# Altium schematic symbol library kmilo17pet-NSC_VoltageRef.SchLib: 796 symbols (part 11 of 20)
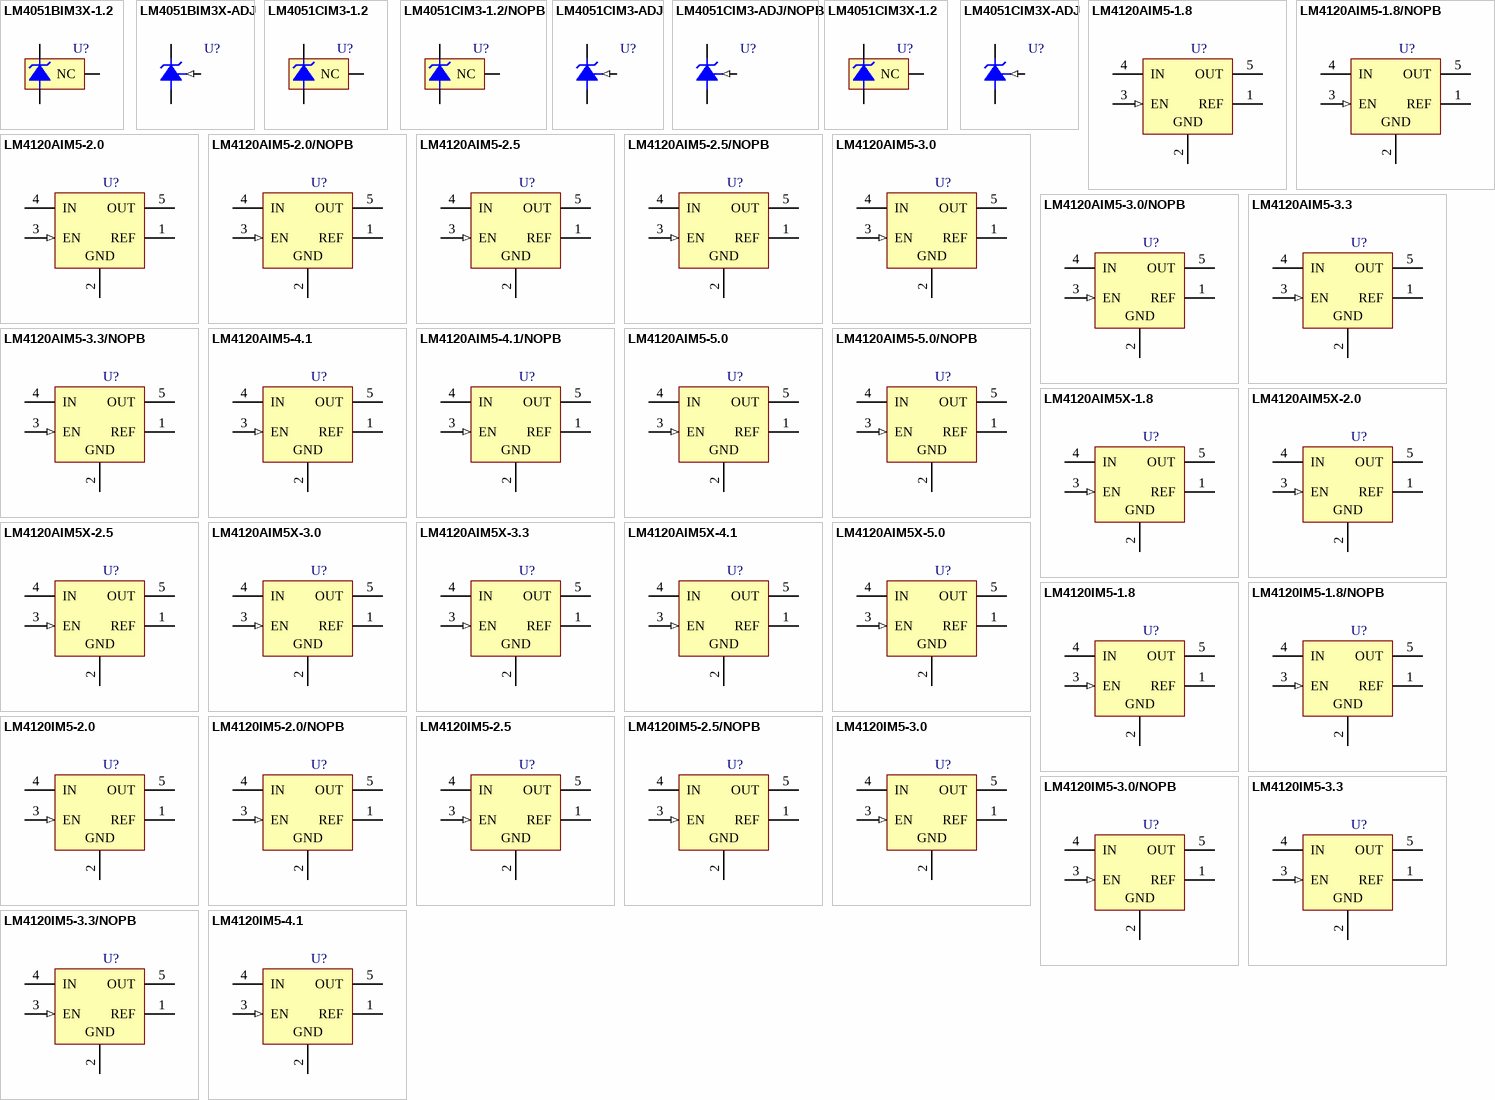
[diagram p30: symbols LM4051BIM3X-1.2 to LM4120IM5-4.1]

## LM4120AIM5-3.0/NOPB
designator U?
Precision Micropower Low Dropout Voltage Reference, 5-pin SOT-23, Pb-Free; PartNumber: LM4120AIM5-3.0/NOPB; Manufacturer: National Semiconductor; PackageTopMarking: R15A*XTT; PowerWise: Y; CompType: Voltage Reference IC; DatasheetVersion: Mar-2005; PackageVersion: revD, Aug-2008; PackageReference: MF05A; PackageDescription: Molded SOT-23, .115 x .063 x .040 in Body, 5 Lead, .0375 in Pitch; RoHS: Y; PinCount: 5; ComponentLink1Description: Manufacturer URL; ComponentLink1URL: http://www.national.com/; ComponentLink2Description: LM4120 Datasheet; ComponentLink2URL: http://www.national.com/ds/LM/LM4120.pdf; ComponentLink3Description: LM4120 Web Page; ComponentLink3URL: http://www.national.com/pf/LM/LM4120.html; ComponentLink4Description: MF05A Package Page; ComponentLink4URL: http://www.national.com/packaging/folders/mf05a.html
footprint MF05A_N (SOT23, 5-Leads, Body 2.9x1.6mm, Pitch 0.95mm, Lead Span 2.8mm, IPC Medium Density)
footprint MF05A_L (SOT23, 5-Leads, Body 2.9x1.6mm, Pitch 0.95mm, Lead Span 2.8mm, IPC High Density)
footprint MF05A_M (SOT23, 5-Leads, Body 2.9x1.6mm, Pitch 0.95mm, Lead Span 2.8mm, IPC Low Density)
pins: 1 REF, 2 GND (power), 3 EN (in), 4 IN (power), 5 OUT (power)

## LM4120AIM5-3.3
designator U?
Precision Micropower Low Dropout Voltage Reference, 5-pin SOT-23; PartNumber: LM4120AIM5-3.3; Manufacturer: National Semiconductor; PackageTopMarking: R16A*XTT; PowerWise: Y; CompType: Voltage Reference IC; DatasheetVersion: Mar-2005; PackageVersion: revD, Aug-2008; PackageReference: MF05A; PackageDescription: Molded SOT-23, .115 x .063 x .040 in Body, 5 Lead, .0375 in Pitch; RoHS: N; PinCount: 5; ComponentLink1Description: Manufacturer URL; ComponentLink1URL: http://www.national.com/; ComponentLink2Description: LM4120 Datasheet; ComponentLink2URL: http://www.national.com/ds/LM/LM4120.pdf; ComponentLink3Description: LM4120 Web Page; ComponentLink3URL: http://www.national.com/pf/LM/LM4120.html; ComponentLink4Description: MF05A Package Page; ComponentLink4URL: http://www.national.com/packaging/folders/mf05a.html
footprint MF05A_N (SOT23, 5-Leads, Body 2.9x1.6mm, Pitch 0.95mm, Lead Span 2.8mm, IPC Medium Density)
footprint MF05A_L (SOT23, 5-Leads, Body 2.9x1.6mm, Pitch 0.95mm, Lead Span 2.8mm, IPC High Density)
footprint MF05A_M (SOT23, 5-Leads, Body 2.9x1.6mm, Pitch 0.95mm, Lead Span 2.8mm, IPC Low Density)
pins: 1 REF, 2 GND (power), 3 EN (in), 4 IN (power), 5 OUT (power)

## LM4120AIM5-3.3/NOPB
designator U?
Precision Micropower Low Dropout Voltage Reference, 5-pin SOT-23, Pb-Free; PartNumber: LM4120AIM5-3.3/NOPB; Manufacturer: National Semiconductor; PackageTopMarking: R16A*XTT; PowerWise: Y; CompType: Voltage Reference IC; DatasheetVersion: Mar-2005; PackageVersion: revD, Aug-2008; PackageReference: MF05A; PackageDescription: Molded SOT-23, .115 x .063 x .040 in Body, 5 Lead, .0375 in Pitch; RoHS: Y; PinCount: 5; ComponentLink1Description: Manufacturer URL; ComponentLink1URL: http://www.national.com/; ComponentLink2Description: LM4120 Datasheet; ComponentLink2URL: http://www.national.com/ds/LM/LM4120.pdf; ComponentLink3Description: LM4120 Web Page; ComponentLink3URL: http://www.national.com/pf/LM/LM4120.html; ComponentLink4Description: MF05A Package Page; ComponentLink4URL: http://www.national.com/packaging/folders/mf05a.html
footprint MF05A_N (SOT23, 5-Leads, Body 2.9x1.6mm, Pitch 0.95mm, Lead Span 2.8mm, IPC Medium Density)
footprint MF05A_L (SOT23, 5-Leads, Body 2.9x1.6mm, Pitch 0.95mm, Lead Span 2.8mm, IPC High Density)
footprint MF05A_M (SOT23, 5-Leads, Body 2.9x1.6mm, Pitch 0.95mm, Lead Span 2.8mm, IPC Low Density)
pins: 1 REF, 2 GND (power), 3 EN (in), 4 IN (power), 5 OUT (power)

## LM4120AIM5-4.1
designator U?
Precision Micropower Low Dropout Voltage Reference, 5-pin SOT-23; PartNumber: LM4120AIM5-4.1; Manufacturer: National Semiconductor; PackageTopMarking: R17A*XTT; PowerWise: Y; CompType: Voltage Reference IC; DatasheetVersion: Mar-2005; PackageVersion: revD, Aug-2008; PackageReference: MF05A; PackageDescription: Molded SOT-23, .115 x .063 x .040 in Body, 5 Lead, .0375 in Pitch; RoHS: N; PinCount: 5; ComponentLink1Description: Manufacturer URL; ComponentLink1URL: http://www.national.com/; ComponentLink2Description: LM4120 Datasheet; ComponentLink2URL: http://www.national.com/ds/LM/LM4120.pdf; ComponentLink3Description: LM4120 Web Page; ComponentLink3URL: http://www.national.com/pf/LM/LM4120.html; ComponentLink4Description: MF05A Package Page; ComponentLink4URL: http://www.national.com/packaging/folders/mf05a.html
footprint MF05A_N (SOT23, 5-Leads, Body 2.9x1.6mm, Pitch 0.95mm, Lead Span 2.8mm, IPC Medium Density)
footprint MF05A_L (SOT23, 5-Leads, Body 2.9x1.6mm, Pitch 0.95mm, Lead Span 2.8mm, IPC High Density)
footprint MF05A_M (SOT23, 5-Leads, Body 2.9x1.6mm, Pitch 0.95mm, Lead Span 2.8mm, IPC Low Density)
pins: 1 REF, 2 GND (power), 3 EN (in), 4 IN (power), 5 OUT (power)

## LM4120AIM5-4.1/NOPB
designator U?
Precision Micropower Low Dropout Voltage Reference, 5-pin SOT-23, Pb-Free; PartNumber: LM4120AIM5-4.1/NOPB; Manufacturer: National Semiconductor; PackageTopMarking: R17A*XTT; PowerWise: Y; CompType: Voltage Reference IC; DatasheetVersion: Mar-2005; PackageVersion: revD, Aug-2008; PackageReference: MF05A; PackageDescription: Molded SOT-23, .115 x .063 x .040 in Body, 5 Lead, .0375 in Pitch; RoHS: Y; PinCount: 5; ComponentLink1Description: Manufacturer URL; ComponentLink1URL: http://www.national.com/; ComponentLink2Description: LM4120 Datasheet; ComponentLink2URL: http://www.national.com/ds/LM/LM4120.pdf; ComponentLink3Description: LM4120 Web Page; ComponentLink3URL: http://www.national.com/pf/LM/LM4120.html; ComponentLink4Description: MF05A Package Page; ComponentLink4URL: http://www.national.com/packaging/folders/mf05a.html
footprint MF05A_N (SOT23, 5-Leads, Body 2.9x1.6mm, Pitch 0.95mm, Lead Span 2.8mm, IPC Medium Density)
footprint MF05A_L (SOT23, 5-Leads, Body 2.9x1.6mm, Pitch 0.95mm, Lead Span 2.8mm, IPC High Density)
footprint MF05A_M (SOT23, 5-Leads, Body 2.9x1.6mm, Pitch 0.95mm, Lead Span 2.8mm, IPC Low Density)
pins: 1 REF, 2 GND (power), 3 EN (in), 4 IN (power), 5 OUT (power)

## LM4120AIM5-5.0
designator U?
Precision Micropower Low Dropout Voltage Reference, 5-pin SOT-23; PartNumber: LM4120AIM5-5.0; Manufacturer: National Semiconductor; PackageTopMarking: R18A*XTT; PowerWise: Y; CompType: Voltage Reference IC; DatasheetVersion: Mar-2005; PackageVersion: revD, Aug-2008; PackageReference: MF05A; PackageDescription: Molded SOT-23, .115 x .063 x .040 in Body, 5 Lead, .0375 in Pitch; RoHS: N; PinCount: 5; ComponentLink1Description: Manufacturer URL; ComponentLink1URL: http://www.national.com/; ComponentLink2Description: LM4120 Datasheet; ComponentLink2URL: http://www.national.com/ds/LM/LM4120.pdf; ComponentLink3Description: LM4120 Web Page; ComponentLink3URL: http://www.national.com/pf/LM/LM4120.html; ComponentLink4Description: MF05A Package Page; ComponentLink4URL: http://www.national.com/packaging/folders/mf05a.html
footprint MF05A_N (SOT23, 5-Leads, Body 2.9x1.6mm, Pitch 0.95mm, Lead Span 2.8mm, IPC Medium Density)
footprint MF05A_L (SOT23, 5-Leads, Body 2.9x1.6mm, Pitch 0.95mm, Lead Span 2.8mm, IPC High Density)
footprint MF05A_M (SOT23, 5-Leads, Body 2.9x1.6mm, Pitch 0.95mm, Lead Span 2.8mm, IPC Low Density)
pins: 1 REF, 2 GND (power), 3 EN (in), 4 IN (power), 5 OUT (power)

## LM4120AIM5-5.0/NOPB
designator U?
Precision Micropower Low Dropout Voltage Reference, 5-pin SOT-23, Pb-Free; PartNumber: LM4120AIM5-5.0/NOPB; Manufacturer: National Semiconductor; PackageTopMarking: R18A*XTT; PowerWise: Y; CompType: Voltage Reference IC; DatasheetVersion: Mar-2005; PackageVersion: revD, Aug-2008; PackageReference: MF05A; PackageDescription: Molded SOT-23, .115 x .063 x .040 in Body, 5 Lead, .0375 in Pitch; RoHS: Y; PinCount: 5; ComponentLink1Description: Manufacturer URL; ComponentLink1URL: http://www.national.com/; ComponentLink2Description: LM4120 Datasheet; ComponentLink2URL: http://www.national.com/ds/LM/LM4120.pdf; ComponentLink3Description: LM4120 Web Page; ComponentLink3URL: http://www.national.com/pf/LM/LM4120.html; ComponentLink4Description: MF05A Package Page; ComponentLink4URL: http://www.national.com/packaging/folders/mf05a.html
footprint MF05A_N (SOT23, 5-Leads, Body 2.9x1.6mm, Pitch 0.95mm, Lead Span 2.8mm, IPC Medium Density)
footprint MF05A_L (SOT23, 5-Leads, Body 2.9x1.6mm, Pitch 0.95mm, Lead Span 2.8mm, IPC High Density)
footprint MF05A_M (SOT23, 5-Leads, Body 2.9x1.6mm, Pitch 0.95mm, Lead Span 2.8mm, IPC Low Density)
pins: 1 REF, 2 GND (power), 3 EN (in), 4 IN (power), 5 OUT (power)

## LM4120AIM5X-1.8
designator U?
Precision Micropower Low Dropout Voltage Reference, 5-pin SOT-23; PartNumber: LM4120AIM5X-1.8; Manufacturer: National Semiconductor; PackageTopMarking: R21A*XTT; PowerWise: Y; CompType: Voltage Reference IC; DatasheetVersion: Mar-2005; PackageVersion: revD, Aug-2008; PackageReference: MF05A; PackageDescription: Molded SOT-23, .115 x .063 x .040 in Body, 5 Lead, .0375 in Pitch; RoHS: N; PinCount: 5; ComponentLink1Description: Manufacturer URL; ComponentLink1URL: http://www.national.com/; ComponentLink2Description: LM4120 Datasheet; ComponentLink2URL: http://www.national.com/ds/LM/LM4120.pdf; ComponentLink3Description: LM4120 Web Page; ComponentLink3URL: http://www.national.com/pf/LM/LM4120.html; ComponentLink4Description: MF05A Package Page; ComponentLink4URL: http://www.national.com/packaging/folders/mf05a.html
footprint MF05A_N (SOT23, 5-Leads, Body 2.9x1.6mm, Pitch 0.95mm, Lead Span 2.8mm, IPC Medium Density)
footprint MF05A_L (SOT23, 5-Leads, Body 2.9x1.6mm, Pitch 0.95mm, Lead Span 2.8mm, IPC High Density)
footprint MF05A_M (SOT23, 5-Leads, Body 2.9x1.6mm, Pitch 0.95mm, Lead Span 2.8mm, IPC Low Density)
pins: 1 REF, 2 GND (power), 3 EN (in), 4 IN (power), 5 OUT (power)

## LM4120AIM5X-2.0
designator U?
Precision Micropower Low Dropout Voltage Reference, 5-pin SOT-23; PartNumber: LM4120AIM5X-2.0; Manufacturer: National Semiconductor; PackageTopMarking: R14A*XTT; PowerWise: Y; CompType: Voltage Reference IC; DatasheetVersion: Mar-2005; PackageVersion: revD, Aug-2008; PackageReference: MF05A; PackageDescription: Molded SOT-23, .115 x .063 x .040 in Body, 5 Lead, .0375 in Pitch; RoHS: N; PinCount: 5; ComponentLink1Description: Manufacturer URL; ComponentLink1URL: http://www.national.com/; ComponentLink2Description: LM4120 Datasheet; ComponentLink2URL: http://www.national.com/ds/LM/LM4120.pdf; ComponentLink3Description: LM4120 Web Page; ComponentLink3URL: http://www.national.com/pf/LM/LM4120.html; ComponentLink4Description: MF05A Package Page; ComponentLink4URL: http://www.national.com/packaging/folders/mf05a.html
footprint MF05A_N (SOT23, 5-Leads, Body 2.9x1.6mm, Pitch 0.95mm, Lead Span 2.8mm, IPC Medium Density)
footprint MF05A_L (SOT23, 5-Leads, Body 2.9x1.6mm, Pitch 0.95mm, Lead Span 2.8mm, IPC High Density)
footprint MF05A_M (SOT23, 5-Leads, Body 2.9x1.6mm, Pitch 0.95mm, Lead Span 2.8mm, IPC Low Density)
pins: 1 REF, 2 GND (power), 3 EN (in), 4 IN (power), 5 OUT (power)

## LM4120AIM5X-2.5
designator U?
Precision Micropower Low Dropout Voltage Reference, 5-pin SOT-23; PartNumber: LM4120AIM5X-2.5; Manufacturer: National Semiconductor; PackageTopMarking: R08A*XTT; PowerWise: Y; CompType: Voltage Reference IC; DatasheetVersion: Mar-2005; PackageVersion: revD, Aug-2008; PackageReference: MF05A; PackageDescription: Molded SOT-23, .115 x .063 x .040 in Body, 5 Lead, .0375 in Pitch; RoHS: N; PinCount: 5; ComponentLink1Description: Manufacturer URL; ComponentLink1URL: http://www.national.com/; ComponentLink2Description: LM4120 Datasheet; ComponentLink2URL: http://www.national.com/ds/LM/LM4120.pdf; ComponentLink3Description: LM4120 Web Page; ComponentLink3URL: http://www.national.com/pf/LM/LM4120.html; ComponentLink4Description: MF05A Package Page; ComponentLink4URL: http://www.national.com/packaging/folders/mf05a.html
footprint MF05A_N (SOT23, 5-Leads, Body 2.9x1.6mm, Pitch 0.95mm, Lead Span 2.8mm, IPC Medium Density)
footprint MF05A_L (SOT23, 5-Leads, Body 2.9x1.6mm, Pitch 0.95mm, Lead Span 2.8mm, IPC High Density)
footprint MF05A_M (SOT23, 5-Leads, Body 2.9x1.6mm, Pitch 0.95mm, Lead Span 2.8mm, IPC Low Density)
pins: 1 REF, 2 GND (power), 3 EN (in), 4 IN (power), 5 OUT (power)

## LM4120AIM5X-3.0
designator U?
Precision Micropower Low Dropout Voltage Reference, 5-pin SOT-23; PartNumber: LM4120AIM5X-3.0; Manufacturer: National Semiconductor; PackageTopMarking: R15A*XTT; PowerWise: Y; CompType: Voltage Reference IC; DatasheetVersion: Mar-2005; PackageVersion: revD, Aug-2008; PackageReference: MF05A; PackageDescription: Molded SOT-23, .115 x .063 x .040 in Body, 5 Lead, .0375 in Pitch; RoHS: N; PinCount: 5; ComponentLink1Description: Manufacturer URL; ComponentLink1URL: http://www.national.com/; ComponentLink2Description: LM4120 Datasheet; ComponentLink2URL: http://www.national.com/ds/LM/LM4120.pdf; ComponentLink3Description: LM4120 Web Page; ComponentLink3URL: http://www.national.com/pf/LM/LM4120.html; ComponentLink4Description: MF05A Package Page; ComponentLink4URL: http://www.national.com/packaging/folders/mf05a.html
footprint MF05A_N (SOT23, 5-Leads, Body 2.9x1.6mm, Pitch 0.95mm, Lead Span 2.8mm, IPC Medium Density)
footprint MF05A_L (SOT23, 5-Leads, Body 2.9x1.6mm, Pitch 0.95mm, Lead Span 2.8mm, IPC High Density)
footprint MF05A_M (SOT23, 5-Leads, Body 2.9x1.6mm, Pitch 0.95mm, Lead Span 2.8mm, IPC Low Density)
pins: 1 REF, 2 GND (power), 3 EN (in), 4 IN (power), 5 OUT (power)

## LM4120AIM5X-3.3
designator U?
Precision Micropower Low Dropout Voltage Reference, 5-pin SOT-23; PartNumber: LM4120AIM5X-3.3; Manufacturer: National Semiconductor; PackageTopMarking: R16A*XTT; PowerWise: Y; CompType: Voltage Reference IC; DatasheetVersion: Mar-2005; PackageVersion: revD, Aug-2008; PackageReference: MF05A; PackageDescription: Molded SOT-23, .115 x .063 x .040 in Body, 5 Lead, .0375 in Pitch; RoHS: N; PinCount: 5; ComponentLink1Description: Manufacturer URL; ComponentLink1URL: http://www.national.com/; ComponentLink2Description: LM4120 Datasheet; ComponentLink2URL: http://www.national.com/ds/LM/LM4120.pdf; ComponentLink3Description: LM4120 Web Page; ComponentLink3URL: http://www.national.com/pf/LM/LM4120.html; ComponentLink4Description: MF05A Package Page; ComponentLink4URL: http://www.national.com/packaging/folders/mf05a.html
footprint MF05A_N (SOT23, 5-Leads, Body 2.9x1.6mm, Pitch 0.95mm, Lead Span 2.8mm, IPC Medium Density)
footprint MF05A_L (SOT23, 5-Leads, Body 2.9x1.6mm, Pitch 0.95mm, Lead Span 2.8mm, IPC High Density)
footprint MF05A_M (SOT23, 5-Leads, Body 2.9x1.6mm, Pitch 0.95mm, Lead Span 2.8mm, IPC Low Density)
pins: 1 REF, 2 GND (power), 3 EN (in), 4 IN (power), 5 OUT (power)

## LM4120AIM5X-4.1
designator U?
Precision Micropower Low Dropout Voltage Reference, 5-pin SOT-23; PartNumber: LM4120AIM5X-4.1; Manufacturer: National Semiconductor; PackageTopMarking: R17A*XTT; PowerWise: Y; CompType: Voltage Reference IC; DatasheetVersion: Mar-2005; PackageVersion: revD, Aug-2008; PackageReference: MF05A; PackageDescription: Molded SOT-23, .115 x .063 x .040 in Body, 5 Lead, .0375 in Pitch; RoHS: N; PinCount: 5; ComponentLink1Description: Manufacturer URL; ComponentLink1URL: http://www.national.com/; ComponentLink2Description: LM4120 Datasheet; ComponentLink2URL: http://www.national.com/ds/LM/LM4120.pdf; ComponentLink3Description: LM4120 Web Page; ComponentLink3URL: http://www.national.com/pf/LM/LM4120.html; ComponentLink4Description: MF05A Package Page; ComponentLink4URL: http://www.national.com/packaging/folders/mf05a.html
footprint MF05A_N (SOT23, 5-Leads, Body 2.9x1.6mm, Pitch 0.95mm, Lead Span 2.8mm, IPC Medium Density)
footprint MF05A_L (SOT23, 5-Leads, Body 2.9x1.6mm, Pitch 0.95mm, Lead Span 2.8mm, IPC High Density)
footprint MF05A_M (SOT23, 5-Leads, Body 2.9x1.6mm, Pitch 0.95mm, Lead Span 2.8mm, IPC Low Density)
pins: 1 REF, 2 GND (power), 3 EN (in), 4 IN (power), 5 OUT (power)

## LM4120AIM5X-5.0
designator U?
Precision Micropower Low Dropout Voltage Reference, 5-pin SOT-23; PartNumber: LM4120AIM5X-5.0; Manufacturer: National Semiconductor; PackageTopMarking: R18A*XTT; PowerWise: Y; CompType: Voltage Reference IC; DatasheetVersion: Mar-2005; PackageVersion: revD, Aug-2008; PackageReference: MF05A; PackageDescription: Molded SOT-23, .115 x .063 x .040 in Body, 5 Lead, .0375 in Pitch; RoHS: N; PinCount: 5; ComponentLink1Description: Manufacturer URL; ComponentLink1URL: http://www.national.com/; ComponentLink2Description: LM4120 Datasheet; ComponentLink2URL: http://www.national.com/ds/LM/LM4120.pdf; ComponentLink3Description: LM4120 Web Page; ComponentLink3URL: http://www.national.com/pf/LM/LM4120.html; ComponentLink4Description: MF05A Package Page; ComponentLink4URL: http://www.national.com/packaging/folders/mf05a.html
footprint MF05A_N (SOT23, 5-Leads, Body 2.9x1.6mm, Pitch 0.95mm, Lead Span 2.8mm, IPC Medium Density)
footprint MF05A_L (SOT23, 5-Leads, Body 2.9x1.6mm, Pitch 0.95mm, Lead Span 2.8mm, IPC High Density)
footprint MF05A_M (SOT23, 5-Leads, Body 2.9x1.6mm, Pitch 0.95mm, Lead Span 2.8mm, IPC Low Density)
pins: 1 REF, 2 GND (power), 3 EN (in), 4 IN (power), 5 OUT (power)

## LM4120IM5-1.8
designator U?
Precision Micropower Low Dropout Voltage Reference, 5-pin SOT-23; PartNumber: LM4120IM5-1.8; Manufacturer: National Semiconductor; PackageTopMarking: R21B*XTT; PowerWise: Y; CompType: Voltage Reference IC; DatasheetVersion: Mar-2005; PackageVersion: revD, Aug-2008; PackageReference: MF05A; PackageDescription: Molded SOT-23, .115 x .063 x .040 in Body, 5 Lead, .0375 in Pitch; RoHS: N; PinCount: 5; ComponentLink1Description: Manufacturer URL; ComponentLink1URL: http://www.national.com/; ComponentLink2Description: LM4120 Datasheet; ComponentLink2URL: http://www.national.com/ds/LM/LM4120.pdf; ComponentLink3Description: LM4120 Web Page; ComponentLink3URL: http://www.national.com/pf/LM/LM4120.html; ComponentLink4Description: MF05A Package Page; ComponentLink4URL: http://www.national.com/packaging/folders/mf05a.html
footprint MF05A_N (SOT23, 5-Leads, Body 2.9x1.6mm, Pitch 0.95mm, Lead Span 2.8mm, IPC Medium Density)
footprint MF05A_L (SOT23, 5-Leads, Body 2.9x1.6mm, Pitch 0.95mm, Lead Span 2.8mm, IPC High Density)
footprint MF05A_M (SOT23, 5-Leads, Body 2.9x1.6mm, Pitch 0.95mm, Lead Span 2.8mm, IPC Low Density)
pins: 1 REF, 2 GND (power), 3 EN (in), 4 IN (power), 5 OUT (power)

## LM4120IM5-1.8/NOPB
designator U?
Precision Micropower Low Dropout Voltage Reference, 5-pin SOT-23, Pb-Free; PartNumber: LM4120IM5-1.8/NOPB; Manufacturer: National Semiconductor; PackageTopMarking: R21B*XTT; PowerWise: Y; CompType: Voltage Reference IC; DatasheetVersion: Mar-2005; PackageVersion: revD, Aug-2008; PackageReference: MF05A; PackageDescription: Molded SOT-23, .115 x .063 x .040 in Body, 5 Lead, .0375 in Pitch; RoHS: Y; PinCount: 5; ComponentLink1Description: Manufacturer URL; ComponentLink1URL: http://www.national.com/; ComponentLink2Description: LM4120 Datasheet; ComponentLink2URL: http://www.national.com/ds/LM/LM4120.pdf; ComponentLink3Description: LM4120 Web Page; ComponentLink3URL: http://www.national.com/pf/LM/LM4120.html; ComponentLink4Description: MF05A Package Page; ComponentLink4URL: http://www.national.com/packaging/folders/mf05a.html
footprint MF05A_N (SOT23, 5-Leads, Body 2.9x1.6mm, Pitch 0.95mm, Lead Span 2.8mm, IPC Medium Density)
footprint MF05A_L (SOT23, 5-Leads, Body 2.9x1.6mm, Pitch 0.95mm, Lead Span 2.8mm, IPC High Density)
footprint MF05A_M (SOT23, 5-Leads, Body 2.9x1.6mm, Pitch 0.95mm, Lead Span 2.8mm, IPC Low Density)
pins: 1 REF, 2 GND (power), 3 EN (in), 4 IN (power), 5 OUT (power)

## LM4120IM5-2.0
designator U?
Precision Micropower Low Dropout Voltage Reference, 5-pin SOT-23; PartNumber: LM4120IM5-2.0; Manufacturer: National Semiconductor; PackageTopMarking: R14B*XTT; PowerWise: Y; CompType: Voltage Reference IC; DatasheetVersion: Mar-2005; PackageVersion: revD, Aug-2008; PackageReference: MF05A; PackageDescription: Molded SOT-23, .115 x .063 x .040 in Body, 5 Lead, .0375 in Pitch; RoHS: N; PinCount: 5; ComponentLink1Description: Manufacturer URL; ComponentLink1URL: http://www.national.com/; ComponentLink2Description: LM4120 Datasheet; ComponentLink2URL: http://www.national.com/ds/LM/LM4120.pdf; ComponentLink3Description: LM4120 Web Page; ComponentLink3URL: http://www.national.com/pf/LM/LM4120.html; ComponentLink4Description: MF05A Package Page; ComponentLink4URL: http://www.national.com/packaging/folders/mf05a.html
footprint MF05A_N (SOT23, 5-Leads, Body 2.9x1.6mm, Pitch 0.95mm, Lead Span 2.8mm, IPC Medium Density)
footprint MF05A_L (SOT23, 5-Leads, Body 2.9x1.6mm, Pitch 0.95mm, Lead Span 2.8mm, IPC High Density)
footprint MF05A_M (SOT23, 5-Leads, Body 2.9x1.6mm, Pitch 0.95mm, Lead Span 2.8mm, IPC Low Density)
pins: 1 REF, 2 GND (power), 3 EN (in), 4 IN (power), 5 OUT (power)

## LM4120IM5-2.0/NOPB
designator U?
Precision Micropower Low Dropout Voltage Reference, 5-pin SOT-23, Pb-Free; PartNumber: LM4120IM5-2.0/NOPB; Manufacturer: National Semiconductor; PackageTopMarking: R14B*XTT; PowerWise: Y; CompType: Voltage Reference IC; DatasheetVersion: Mar-2005; PackageVersion: revD, Aug-2008; PackageReference: MF05A; PackageDescription: Molded SOT-23, .115 x .063 x .040 in Body, 5 Lead, .0375 in Pitch; RoHS: Y; PinCount: 5; ComponentLink1Description: Manufacturer URL; ComponentLink1URL: http://www.national.com/; ComponentLink2Description: LM4120 Datasheet; ComponentLink2URL: http://www.national.com/ds/LM/LM4120.pdf; ComponentLink3Description: LM4120 Web Page; ComponentLink3URL: http://www.national.com/pf/LM/LM4120.html; ComponentLink4Description: MF05A Package Page; ComponentLink4URL: http://www.national.com/packaging/folders/mf05a.html
footprint MF05A_N (SOT23, 5-Leads, Body 2.9x1.6mm, Pitch 0.95mm, Lead Span 2.8mm, IPC Medium Density)
footprint MF05A_L (SOT23, 5-Leads, Body 2.9x1.6mm, Pitch 0.95mm, Lead Span 2.8mm, IPC High Density)
footprint MF05A_M (SOT23, 5-Leads, Body 2.9x1.6mm, Pitch 0.95mm, Lead Span 2.8mm, IPC Low Density)
pins: 1 REF, 2 GND (power), 3 EN (in), 4 IN (power), 5 OUT (power)

## LM4120IM5-2.5
designator U?
Precision Micropower Low Dropout Voltage Reference, 5-pin SOT-23; PartNumber: LM4120IM5-2.5; Manufacturer: National Semiconductor; PackageTopMarking: R08B*XTT; PowerWise: Y; CompType: Voltage Reference IC; DatasheetVersion: Mar-2005; PackageVersion: revD, Aug-2008; PackageReference: MF05A; PackageDescription: Molded SOT-23, .115 x .063 x .040 in Body, 5 Lead, .0375 in Pitch; RoHS: N; PinCount: 5; ComponentLink1Description: Manufacturer URL; ComponentLink1URL: http://www.national.com/; ComponentLink2Description: LM4120 Datasheet; ComponentLink2URL: http://www.national.com/ds/LM/LM4120.pdf; ComponentLink3Description: LM4120 Web Page; ComponentLink3URL: http://www.national.com/pf/LM/LM4120.html; ComponentLink4Description: MF05A Package Page; ComponentLink4URL: http://www.national.com/packaging/folders/mf05a.html
footprint MF05A_N (SOT23, 5-Leads, Body 2.9x1.6mm, Pitch 0.95mm, Lead Span 2.8mm, IPC Medium Density)
footprint MF05A_L (SOT23, 5-Leads, Body 2.9x1.6mm, Pitch 0.95mm, Lead Span 2.8mm, IPC High Density)
footprint MF05A_M (SOT23, 5-Leads, Body 2.9x1.6mm, Pitch 0.95mm, Lead Span 2.8mm, IPC Low Density)
pins: 1 REF, 2 GND (power), 3 EN (in), 4 IN (power), 5 OUT (power)

## LM4120IM5-2.5/NOPB
designator U?
Precision Micropower Low Dropout Voltage Reference, 5-pin SOT-23, Pb-Free; PartNumber: LM4120IM5-2.5/NOPB; Manufacturer: National Semiconductor; PackageTopMarking: R08B*XTT; PowerWise: Y; CompType: Voltage Reference IC; DatasheetVersion: Mar-2005; PackageVersion: revD, Aug-2008; PackageReference: MF05A; PackageDescription: Molded SOT-23, .115 x .063 x .040 in Body, 5 Lead, .0375 in Pitch; RoHS: Y; PinCount: 5; ComponentLink1Description: Manufacturer URL; ComponentLink1URL: http://www.national.com/; ComponentLink2Description: LM4120 Datasheet; ComponentLink2URL: http://www.national.com/ds/LM/LM4120.pdf; ComponentLink3Description: LM4120 Web Page; ComponentLink3URL: http://www.national.com/pf/LM/LM4120.html; ComponentLink4Description: MF05A Package Page; ComponentLink4URL: http://www.national.com/packaging/folders/mf05a.html
footprint MF05A_N (SOT23, 5-Leads, Body 2.9x1.6mm, Pitch 0.95mm, Lead Span 2.8mm, IPC Medium Density)
footprint MF05A_L (SOT23, 5-Leads, Body 2.9x1.6mm, Pitch 0.95mm, Lead Span 2.8mm, IPC High Density)
footprint MF05A_M (SOT23, 5-Leads, Body 2.9x1.6mm, Pitch 0.95mm, Lead Span 2.8mm, IPC Low Density)
pins: 1 REF, 2 GND (power), 3 EN (in), 4 IN (power), 5 OUT (power)

## LM4120IM5-3.0
designator U?
Precision Micropower Low Dropout Voltage Reference, 5-pin SOT-23; PartNumber: LM4120IM5-3.0; Manufacturer: National Semiconductor; PackageTopMarking: R15B*XTT; PowerWise: Y; CompType: Voltage Reference IC; DatasheetVersion: Mar-2005; PackageVersion: revD, Aug-2008; PackageReference: MF05A; PackageDescription: Molded SOT-23, .115 x .063 x .040 in Body, 5 Lead, .0375 in Pitch; RoHS: N; PinCount: 5; ComponentLink1Description: Manufacturer URL; ComponentLink1URL: http://www.national.com/; ComponentLink2Description: LM4120 Datasheet; ComponentLink2URL: http://www.national.com/ds/LM/LM4120.pdf; ComponentLink3Description: LM4120 Web Page; ComponentLink3URL: http://www.national.com/pf/LM/LM4120.html; ComponentLink4Description: MF05A Package Page; ComponentLink4URL: http://www.national.com/packaging/folders/mf05a.html
footprint MF05A_N (SOT23, 5-Leads, Body 2.9x1.6mm, Pitch 0.95mm, Lead Span 2.8mm, IPC Medium Density)
footprint MF05A_L (SOT23, 5-Leads, Body 2.9x1.6mm, Pitch 0.95mm, Lead Span 2.8mm, IPC High Density)
footprint MF05A_M (SOT23, 5-Leads, Body 2.9x1.6mm, Pitch 0.95mm, Lead Span 2.8mm, IPC Low Density)
pins: 1 REF, 2 GND (power), 3 EN (in), 4 IN (power), 5 OUT (power)

## LM4120IM5-3.0/NOPB
designator U?
Precision Micropower Low Dropout Voltage Reference, 5-pin SOT-23, Pb-Free; PartNumber: LM4120IM5-3.0/NOPB; Manufacturer: National Semiconductor; PackageTopMarking: R15B*XTT; PowerWise: Y; CompType: Voltage Reference IC; DatasheetVersion: Mar-2005; PackageVersion: revD, Aug-2008; PackageReference: MF05A; PackageDescription: Molded SOT-23, .115 x .063 x .040 in Body, 5 Lead, .0375 in Pitch; RoHS: Y; PinCount: 5; ComponentLink1Description: Manufacturer URL; ComponentLink1URL: http://www.national.com/; ComponentLink2Description: LM4120 Datasheet; ComponentLink2URL: http://www.national.com/ds/LM/LM4120.pdf; ComponentLink3Description: LM4120 Web Page; ComponentLink3URL: http://www.national.com/pf/LM/LM4120.html; ComponentLink4Description: MF05A Package Page; ComponentLink4URL: http://www.national.com/packaging/folders/mf05a.html
footprint MF05A_N (SOT23, 5-Leads, Body 2.9x1.6mm, Pitch 0.95mm, Lead Span 2.8mm, IPC Medium Density)
footprint MF05A_L (SOT23, 5-Leads, Body 2.9x1.6mm, Pitch 0.95mm, Lead Span 2.8mm, IPC High Density)
footprint MF05A_M (SOT23, 5-Leads, Body 2.9x1.6mm, Pitch 0.95mm, Lead Span 2.8mm, IPC Low Density)
pins: 1 REF, 2 GND (power), 3 EN (in), 4 IN (power), 5 OUT (power)

## LM4120IM5-3.3
designator U?
Precision Micropower Low Dropout Voltage Reference, 5-pin SOT-23; PartNumber: LM4120IM5-3.3; Manufacturer: National Semiconductor; PackageTopMarking: R16B*XTT; PowerWise: Y; CompType: Voltage Reference IC; DatasheetVersion: Mar-2005; PackageVersion: revD, Aug-2008; PackageReference: MF05A; PackageDescription: Molded SOT-23, .115 x .063 x .040 in Body, 5 Lead, .0375 in Pitch; RoHS: N; PinCount: 5; ComponentLink1Description: Manufacturer URL; ComponentLink1URL: http://www.national.com/; ComponentLink2Description: LM4120 Datasheet; ComponentLink2URL: http://www.national.com/ds/LM/LM4120.pdf; ComponentLink3Description: LM4120 Web Page; ComponentLink3URL: http://www.national.com/pf/LM/LM4120.html; ComponentLink4Description: MF05A Package Page; ComponentLink4URL: http://www.national.com/packaging/folders/mf05a.html
footprint MF05A_N (SOT23, 5-Leads, Body 2.9x1.6mm, Pitch 0.95mm, Lead Span 2.8mm, IPC Medium Density)
footprint MF05A_L (SOT23, 5-Leads, Body 2.9x1.6mm, Pitch 0.95mm, Lead Span 2.8mm, IPC High Density)
footprint MF05A_M (SOT23, 5-Leads, Body 2.9x1.6mm, Pitch 0.95mm, Lead Span 2.8mm, IPC Low Density)
pins: 1 REF, 2 GND (power), 3 EN (in), 4 IN (power), 5 OUT (power)

## LM4120IM5-3.3/NOPB
designator U?
Precision Micropower Low Dropout Voltage Reference, 5-pin SOT-23, Pb-Free; PartNumber: LM4120IM5-3.3/NOPB; Manufacturer: National Semiconductor; PackageTopMarking: R16B*XTT; PowerWise: Y; CompType: Voltage Reference IC; DatasheetVersion: Mar-2005; PackageVersion: revD, Aug-2008; PackageReference: MF05A; PackageDescription: Molded SOT-23, .115 x .063 x .040 in Body, 5 Lead, .0375 in Pitch; RoHS: Y; PinCount: 5; ComponentLink1Description: Manufacturer URL; ComponentLink1URL: http://www.national.com/; ComponentLink2Description: LM4120 Datasheet; ComponentLink2URL: http://www.national.com/ds/LM/LM4120.pdf; ComponentLink3Description: LM4120 Web Page; ComponentLink3URL: http://www.national.com/pf/LM/LM4120.html; ComponentLink4Description: MF05A Package Page; ComponentLink4URL: http://www.national.com/packaging/folders/mf05a.html
footprint MF05A_N (SOT23, 5-Leads, Body 2.9x1.6mm, Pitch 0.95mm, Lead Span 2.8mm, IPC Medium Density)
footprint MF05A_L (SOT23, 5-Leads, Body 2.9x1.6mm, Pitch 0.95mm, Lead Span 2.8mm, IPC High Density)
footprint MF05A_M (SOT23, 5-Leads, Body 2.9x1.6mm, Pitch 0.95mm, Lead Span 2.8mm, IPC Low Density)
pins: 1 REF, 2 GND (power), 3 EN (in), 4 IN (power), 5 OUT (power)

## LM4120IM5-4.1
designator U?
Precision Micropower Low Dropout Voltage Reference, 5-pin SOT-23; PartNumber: LM4120IM5-4.1; Manufacturer: National Semiconductor; PackageTopMarking: R17B*XTT; PowerWise: Y; CompType: Voltage Reference IC; DatasheetVersion: Mar-2005; PackageVersion: revD, Aug-2008; PackageReference: MF05A; PackageDescription: Molded SOT-23, .115 x .063 x .040 in Body, 5 Lead, .0375 in Pitch; RoHS: N; PinCount: 5; ComponentLink1Description: Manufacturer URL; ComponentLink1URL: http://www.national.com/; ComponentLink2Description: LM4120 Datasheet; ComponentLink2URL: http://www.national.com/ds/LM/LM4120.pdf; ComponentLink3Description: LM4120 Web Page; ComponentLink3URL: http://www.national.com/pf/LM/LM4120.html; ComponentLink4Description: MF05A Package Page; ComponentLink4URL: http://www.national.com/packaging/folders/mf05a.html
footprint MF05A_N (SOT23, 5-Leads, Body 2.9x1.6mm, Pitch 0.95mm, Lead Span 2.8mm, IPC Medium Density)
footprint MF05A_L (SOT23, 5-Leads, Body 2.9x1.6mm, Pitch 0.95mm, Lead Span 2.8mm, IPC High Density)
footprint MF05A_M (SOT23, 5-Leads, Body 2.9x1.6mm, Pitch 0.95mm, Lead Span 2.8mm, IPC Low Density)
pins: 1 REF, 2 GND (power), 3 EN (in), 4 IN (power), 5 OUT (power)

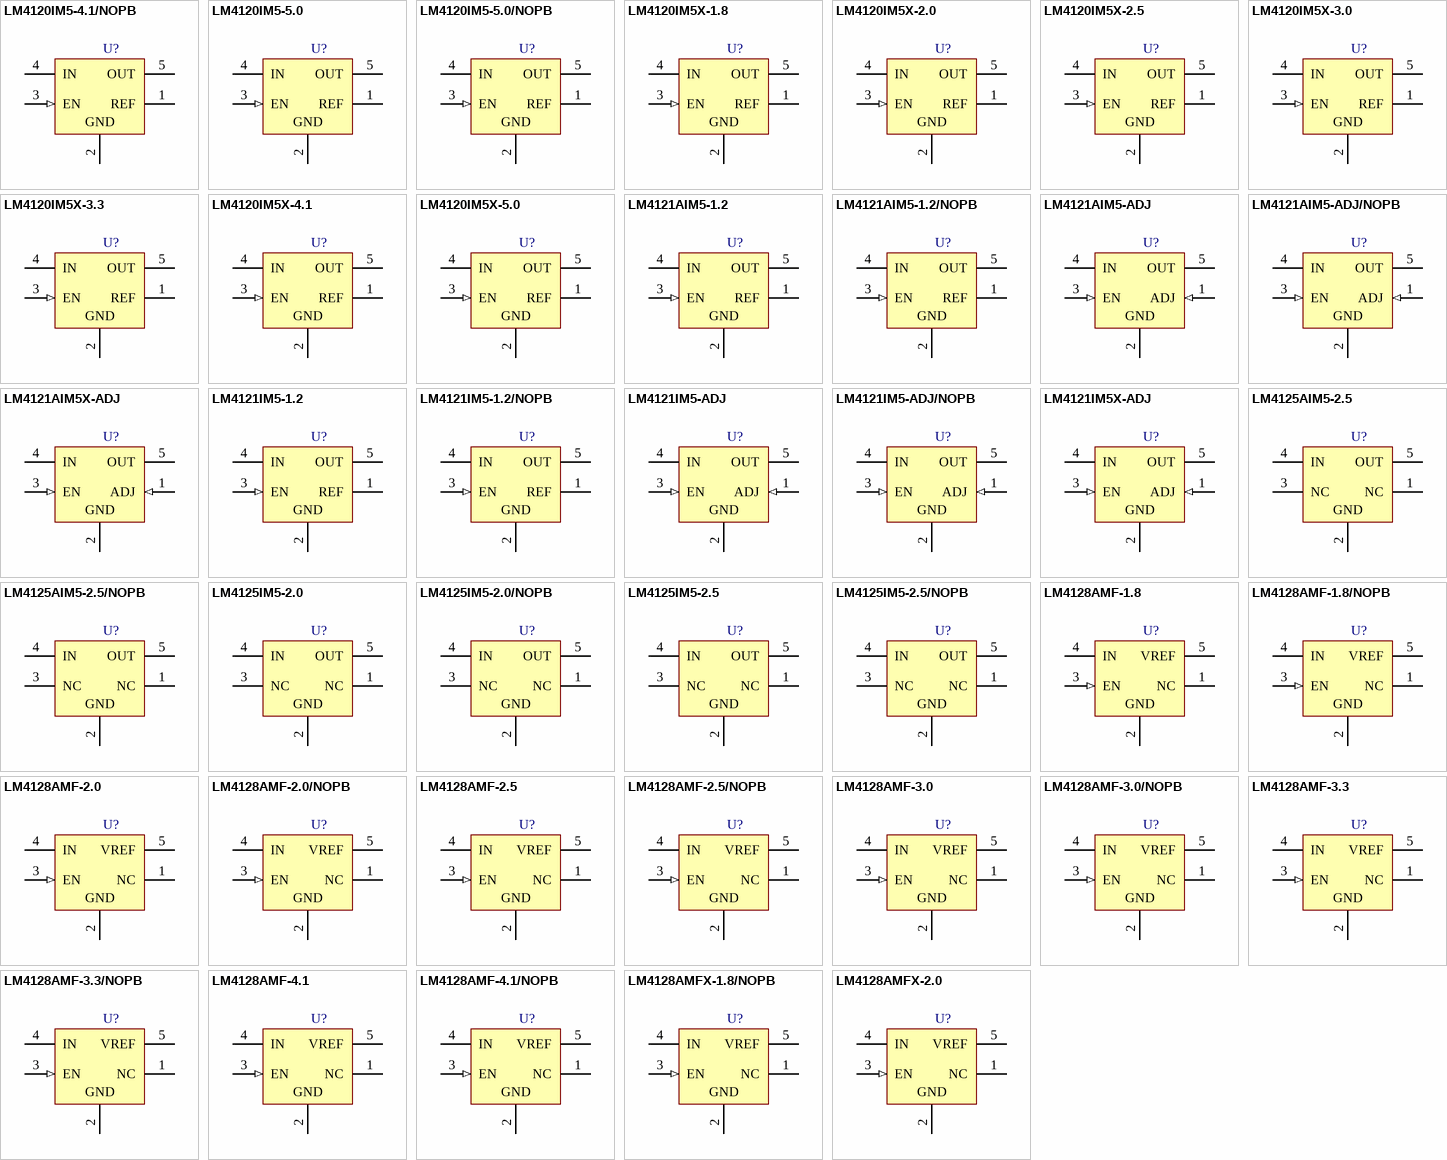
[diagram p12: symbols LM4120IM5-4.1/NOPB to LM4128AMFX-2.0]

## LM4120IM5-4.1/NOPB
designator U?
Precision Micropower Low Dropout Voltage Reference, 5-pin SOT-23, Pb-Free; PartNumber: LM4120IM5-4.1/NOPB; Manufacturer: National Semiconductor; PackageTopMarking: R17B*XTT; PowerWise: Y; CompType: Voltage Reference IC; DatasheetVersion: Mar-2005; PackageVersion: revD, Aug-2008; PackageReference: MF05A; PackageDescription: Molded SOT-23, .115 x .063 x .040 in Body, 5 Lead, .0375 in Pitch; RoHS: Y; PinCount: 5; ComponentLink1Description: Manufacturer URL; ComponentLink1URL: http://www.national.com/; ComponentLink2Description: LM4120 Datasheet; ComponentLink2URL: http://www.national.com/ds/LM/LM4120.pdf; ComponentLink3Description: LM4120 Web Page; ComponentLink3URL: http://www.national.com/pf/LM/LM4120.html; ComponentLink4Description: MF05A Package Page; ComponentLink4URL: http://www.national.com/packaging/folders/mf05a.html
footprint MF05A_N (SOT23, 5-Leads, Body 2.9x1.6mm, Pitch 0.95mm, Lead Span 2.8mm, IPC Medium Density)
footprint MF05A_L (SOT23, 5-Leads, Body 2.9x1.6mm, Pitch 0.95mm, Lead Span 2.8mm, IPC High Density)
footprint MF05A_M (SOT23, 5-Leads, Body 2.9x1.6mm, Pitch 0.95mm, Lead Span 2.8mm, IPC Low Density)
pins: 1 REF, 2 GND (power), 3 EN (in), 4 IN (power), 5 OUT (power)

## LM4120IM5-5.0
designator U?
Precision Micropower Low Dropout Voltage Reference, 5-pin SOT-23; PartNumber: LM4120IM5-5.0; Manufacturer: National Semiconductor; PackageTopMarking: R18B*XTT; PowerWise: Y; CompType: Voltage Reference IC; DatasheetVersion: Mar-2005; PackageVersion: revD, Aug-2008; PackageReference: MF05A; PackageDescription: Molded SOT-23, .115 x .063 x .040 in Body, 5 Lead, .0375 in Pitch; RoHS: N; PinCount: 5; ComponentLink1Description: Manufacturer URL; ComponentLink1URL: http://www.national.com/; ComponentLink2Description: LM4120 Datasheet; ComponentLink2URL: http://www.national.com/ds/LM/LM4120.pdf; ComponentLink3Description: LM4120 Web Page; ComponentLink3URL: http://www.national.com/pf/LM/LM4120.html; ComponentLink4Description: MF05A Package Page; ComponentLink4URL: http://www.national.com/packaging/folders/mf05a.html
footprint MF05A_N (SOT23, 5-Leads, Body 2.9x1.6mm, Pitch 0.95mm, Lead Span 2.8mm, IPC Medium Density)
footprint MF05A_L (SOT23, 5-Leads, Body 2.9x1.6mm, Pitch 0.95mm, Lead Span 2.8mm, IPC High Density)
footprint MF05A_M (SOT23, 5-Leads, Body 2.9x1.6mm, Pitch 0.95mm, Lead Span 2.8mm, IPC Low Density)
pins: 1 REF, 2 GND (power), 3 EN (in), 4 IN (power), 5 OUT (power)

## LM4120IM5-5.0/NOPB
designator U?
Precision Micropower Low Dropout Voltage Reference, 5-pin SOT-23, Pb-Free; PartNumber: LM4120IM5-5.0/NOPB; Manufacturer: National Semiconductor; PackageTopMarking: R18B*XTT; PowerWise: Y; CompType: Voltage Reference IC; DatasheetVersion: Mar-2005; PackageVersion: revD, Aug-2008; PackageReference: MF05A; PackageDescription: Molded SOT-23, .115 x .063 x .040 in Body, 5 Lead, .0375 in Pitch; RoHS: Y; PinCount: 5; ComponentLink1Description: Manufacturer URL; ComponentLink1URL: http://www.national.com/; ComponentLink2Description: LM4120 Datasheet; ComponentLink2URL: http://www.national.com/ds/LM/LM4120.pdf; ComponentLink3Description: LM4120 Web Page; ComponentLink3URL: http://www.national.com/pf/LM/LM4120.html; ComponentLink4Description: MF05A Package Page; ComponentLink4URL: http://www.national.com/packaging/folders/mf05a.html
footprint MF05A_N (SOT23, 5-Leads, Body 2.9x1.6mm, Pitch 0.95mm, Lead Span 2.8mm, IPC Medium Density)
footprint MF05A_L (SOT23, 5-Leads, Body 2.9x1.6mm, Pitch 0.95mm, Lead Span 2.8mm, IPC High Density)
footprint MF05A_M (SOT23, 5-Leads, Body 2.9x1.6mm, Pitch 0.95mm, Lead Span 2.8mm, IPC Low Density)
pins: 1 REF, 2 GND (power), 3 EN (in), 4 IN (power), 5 OUT (power)

## LM4120IM5X-1.8
designator U?
Precision Micropower Low Dropout Voltage Reference, 5-pin SOT-23; PartNumber: LM4120IM5X-1.8; Manufacturer: National Semiconductor; PackageTopMarking: R21B*XTT; PowerWise: Y; CompType: Voltage Reference IC; DatasheetVersion: Mar-2005; PackageVersion: revD, Aug-2008; PackageReference: MF05A; PackageDescription: Molded SOT-23, .115 x .063 x .040 in Body, 5 Lead, .0375 in Pitch; RoHS: N; PinCount: 5; ComponentLink1Description: Manufacturer URL; ComponentLink1URL: http://www.national.com/; ComponentLink2Description: LM4120 Datasheet; ComponentLink2URL: http://www.national.com/ds/LM/LM4120.pdf; ComponentLink3Description: LM4120 Web Page; ComponentLink3URL: http://www.national.com/pf/LM/LM4120.html; ComponentLink4Description: MF05A Package Page; ComponentLink4URL: http://www.national.com/packaging/folders/mf05a.html
footprint MF05A_N (SOT23, 5-Leads, Body 2.9x1.6mm, Pitch 0.95mm, Lead Span 2.8mm, IPC Medium Density)
footprint MF05A_L (SOT23, 5-Leads, Body 2.9x1.6mm, Pitch 0.95mm, Lead Span 2.8mm, IPC High Density)
footprint MF05A_M (SOT23, 5-Leads, Body 2.9x1.6mm, Pitch 0.95mm, Lead Span 2.8mm, IPC Low Density)
pins: 1 REF, 2 GND (power), 3 EN (in), 4 IN (power), 5 OUT (power)

## LM4120IM5X-2.0
designator U?
Precision Micropower Low Dropout Voltage Reference, 5-pin SOT-23; PartNumber: LM4120IM5X-2.0; Manufacturer: National Semiconductor; PackageTopMarking: R14B*XTT; PowerWise: Y; CompType: Voltage Reference IC; DatasheetVersion: Mar-2005; PackageVersion: revD, Aug-2008; PackageReference: MF05A; PackageDescription: Molded SOT-23, .115 x .063 x .040 in Body, 5 Lead, .0375 in Pitch; RoHS: N; PinCount: 5; ComponentLink1Description: Manufacturer URL; ComponentLink1URL: http://www.national.com/; ComponentLink2Description: LM4120 Datasheet; ComponentLink2URL: http://www.national.com/ds/LM/LM4120.pdf; ComponentLink3Description: LM4120 Web Page; ComponentLink3URL: http://www.national.com/pf/LM/LM4120.html; ComponentLink4Description: MF05A Package Page; ComponentLink4URL: http://www.national.com/packaging/folders/mf05a.html
footprint MF05A_N (SOT23, 5-Leads, Body 2.9x1.6mm, Pitch 0.95mm, Lead Span 2.8mm, IPC Medium Density)
footprint MF05A_L (SOT23, 5-Leads, Body 2.9x1.6mm, Pitch 0.95mm, Lead Span 2.8mm, IPC High Density)
footprint MF05A_M (SOT23, 5-Leads, Body 2.9x1.6mm, Pitch 0.95mm, Lead Span 2.8mm, IPC Low Density)
pins: 1 REF, 2 GND (power), 3 EN (in), 4 IN (power), 5 OUT (power)

## LM4120IM5X-2.5
designator U?
Precision Micropower Low Dropout Voltage Reference, 5-pin SOT-23; PartNumber: LM4120IM5X-2.5; Manufacturer: National Semiconductor; PackageTopMarking: R08B*XTT; PowerWise: Y; CompType: Voltage Reference IC; DatasheetVersion: Mar-2005; PackageVersion: revD, Aug-2008; PackageReference: MF05A; PackageDescription: Molded SOT-23, .115 x .063 x .040 in Body, 5 Lead, .0375 in Pitch; RoHS: N; PinCount: 5; ComponentLink1Description: Manufacturer URL; ComponentLink1URL: http://www.national.com/; ComponentLink2Description: LM4120 Datasheet; ComponentLink2URL: http://www.national.com/ds/LM/LM4120.pdf; ComponentLink3Description: LM4120 Web Page; ComponentLink3URL: http://www.national.com/pf/LM/LM4120.html; ComponentLink4Description: MF05A Package Page; ComponentLink4URL: http://www.national.com/packaging/folders/mf05a.html
footprint MF05A_N (SOT23, 5-Leads, Body 2.9x1.6mm, Pitch 0.95mm, Lead Span 2.8mm, IPC Medium Density)
footprint MF05A_L (SOT23, 5-Leads, Body 2.9x1.6mm, Pitch 0.95mm, Lead Span 2.8mm, IPC High Density)
footprint MF05A_M (SOT23, 5-Leads, Body 2.9x1.6mm, Pitch 0.95mm, Lead Span 2.8mm, IPC Low Density)
pins: 1 REF, 2 GND (power), 3 EN (in), 4 IN (power), 5 OUT (power)

## LM4120IM5X-3.0
designator U?
Precision Micropower Low Dropout Voltage Reference, 5-pin SOT-23; PartNumber: LM4120IM5X-3.0; Manufacturer: National Semiconductor; PackageTopMarking: R15B*XTT; PowerWise: Y; CompType: Voltage Reference IC; DatasheetVersion: Mar-2005; PackageVersion: revD, Aug-2008; PackageReference: MF05A; PackageDescription: Molded SOT-23, .115 x .063 x .040 in Body, 5 Lead, .0375 in Pitch; RoHS: N; PinCount: 5; ComponentLink1Description: Manufacturer URL; ComponentLink1URL: http://www.national.com/; ComponentLink2Description: LM4120 Datasheet; ComponentLink2URL: http://www.national.com/ds/LM/LM4120.pdf; ComponentLink3Description: LM4120 Web Page; ComponentLink3URL: http://www.national.com/pf/LM/LM4120.html; ComponentLink4Description: MF05A Package Page; ComponentLink4URL: http://www.national.com/packaging/folders/mf05a.html
footprint MF05A_N (SOT23, 5-Leads, Body 2.9x1.6mm, Pitch 0.95mm, Lead Span 2.8mm, IPC Medium Density)
footprint MF05A_L (SOT23, 5-Leads, Body 2.9x1.6mm, Pitch 0.95mm, Lead Span 2.8mm, IPC High Density)
footprint MF05A_M (SOT23, 5-Leads, Body 2.9x1.6mm, Pitch 0.95mm, Lead Span 2.8mm, IPC Low Density)
pins: 1 REF, 2 GND (power), 3 EN (in), 4 IN (power), 5 OUT (power)

## LM4120IM5X-3.3
designator U?
Precision Micropower Low Dropout Voltage Reference, 5-pin SOT-23; PartNumber: LM4120IM5X-3.3; Manufacturer: National Semiconductor; PackageTopMarking: R16B*XTT; PowerWise: Y; CompType: Voltage Reference IC; DatasheetVersion: Mar-2005; PackageVersion: revD, Aug-2008; PackageReference: MF05A; PackageDescription: Molded SOT-23, .115 x .063 x .040 in Body, 5 Lead, .0375 in Pitch; RoHS: N; PinCount: 5; ComponentLink1Description: Manufacturer URL; ComponentLink1URL: http://www.national.com/; ComponentLink2Description: LM4120 Datasheet; ComponentLink2URL: http://www.national.com/ds/LM/LM4120.pdf; ComponentLink3Description: LM4120 Web Page; ComponentLink3URL: http://www.national.com/pf/LM/LM4120.html; ComponentLink4Description: MF05A Package Page; ComponentLink4URL: http://www.national.com/packaging/folders/mf05a.html
footprint MF05A_N (SOT23, 5-Leads, Body 2.9x1.6mm, Pitch 0.95mm, Lead Span 2.8mm, IPC Medium Density)
footprint MF05A_L (SOT23, 5-Leads, Body 2.9x1.6mm, Pitch 0.95mm, Lead Span 2.8mm, IPC High Density)
footprint MF05A_M (SOT23, 5-Leads, Body 2.9x1.6mm, Pitch 0.95mm, Lead Span 2.8mm, IPC Low Density)
pins: 1 REF, 2 GND (power), 3 EN (in), 4 IN (power), 5 OUT (power)

## LM4120IM5X-4.1
designator U?
Precision Micropower Low Dropout Voltage Reference, 5-pin SOT-23; PartNumber: LM4120IM5X-4.1; Manufacturer: National Semiconductor; PackageTopMarking: R17B*XTT; PowerWise: Y; CompType: Voltage Reference IC; DatasheetVersion: Mar-2005; PackageVersion: revD, Aug-2008; PackageReference: MF05A; PackageDescription: Molded SOT-23, .115 x .063 x .040 in Body, 5 Lead, .0375 in Pitch; RoHS: N; PinCount: 5; ComponentLink1Description: Manufacturer URL; ComponentLink1URL: http://www.national.com/; ComponentLink2Description: LM4120 Datasheet; ComponentLink2URL: http://www.national.com/ds/LM/LM4120.pdf; ComponentLink3Description: LM4120 Web Page; ComponentLink3URL: http://www.national.com/pf/LM/LM4120.html; ComponentLink4Description: MF05A Package Page; ComponentLink4URL: http://www.national.com/packaging/folders/mf05a.html
footprint MF05A_N (SOT23, 5-Leads, Body 2.9x1.6mm, Pitch 0.95mm, Lead Span 2.8mm, IPC Medium Density)
footprint MF05A_L (SOT23, 5-Leads, Body 2.9x1.6mm, Pitch 0.95mm, Lead Span 2.8mm, IPC High Density)
footprint MF05A_M (SOT23, 5-Leads, Body 2.9x1.6mm, Pitch 0.95mm, Lead Span 2.8mm, IPC Low Density)
pins: 1 REF, 2 GND (power), 3 EN (in), 4 IN (power), 5 OUT (power)

## LM4120IM5X-5.0
designator U?
Precision Micropower Low Dropout Voltage Reference, 5-pin SOT-23; PartNumber: LM4120IM5X-5.0; Manufacturer: National Semiconductor; PackageTopMarking: R18B*XTT; PowerWise: Y; CompType: Voltage Reference IC; DatasheetVersion: Mar-2005; PackageVersion: revD, Aug-2008; PackageReference: MF05A; PackageDescription: Molded SOT-23, .115 x .063 x .040 in Body, 5 Lead, .0375 in Pitch; RoHS: N; PinCount: 5; ComponentLink1Description: Manufacturer URL; ComponentLink1URL: http://www.national.com/; ComponentLink2Description: LM4120 Datasheet; ComponentLink2URL: http://www.national.com/ds/LM/LM4120.pdf; ComponentLink3Description: LM4120 Web Page; ComponentLink3URL: http://www.national.com/pf/LM/LM4120.html; ComponentLink4Description: MF05A Package Page; ComponentLink4URL: http://www.national.com/packaging/folders/mf05a.html
footprint MF05A_N (SOT23, 5-Leads, Body 2.9x1.6mm, Pitch 0.95mm, Lead Span 2.8mm, IPC Medium Density)
footprint MF05A_L (SOT23, 5-Leads, Body 2.9x1.6mm, Pitch 0.95mm, Lead Span 2.8mm, IPC High Density)
footprint MF05A_M (SOT23, 5-Leads, Body 2.9x1.6mm, Pitch 0.95mm, Lead Span 2.8mm, IPC Low Density)
pins: 1 REF, 2 GND (power), 3 EN (in), 4 IN (power), 5 OUT (power)

## LM4121AIM5-1.2
designator U?
Precision Micropower Low Dropout Voltage Reference, 5-pin SOT-23; PartNumber: LM4121AIM5-1.2; Manufacturer: National Semiconductor; PackageTopMarking: R19A*XTT; PowerWise: Y; CompType: Voltage Reference IC; DatasheetVersion: Apr-2000; PackageVersion: revD, Aug-2008; PackageReference: MF05A; PackageDescription: Molded SOT-23, .115 x .063 x .040 in Body, 5 Lead, .0375 in Pitch; RoHS: N; PinCount: 5; ComponentLink1Description: Manufacturer URL; ComponentLink1URL: http://www.national.com/; ComponentLink2Description: LM4121 Datasheet; ComponentLink2URL: http://www.national.com/ds/LM/LM4121.pdf; ComponentLink3Description: LM4121 Web Page; ComponentLink3URL: http://www.national.com/pf/LM/LM4121.html; ComponentLink4Description: MF05A Package Page; ComponentLink4URL: http://www.national.com/packaging/folders/mf05a.html
footprint MF05A_N (SOT23, 5-Leads, Body 2.9x1.6mm, Pitch 0.95mm, Lead Span 2.8mm, IPC Medium Density)
footprint MF05A_L (SOT23, 5-Leads, Body 2.9x1.6mm, Pitch 0.95mm, Lead Span 2.8mm, IPC High Density)
footprint MF05A_M (SOT23, 5-Leads, Body 2.9x1.6mm, Pitch 0.95mm, Lead Span 2.8mm, IPC Low Density)
pins: 1 REF, 2 GND (power), 3 EN (in), 4 IN (power), 5 OUT (power)

## LM4121AIM5-1.2/NOPB
designator U?
Precision Micropower Low Dropout Voltage Reference, 5-pin SOT-23, Pb-Free; PartNumber: LM4121AIM5-1.2/NOPB; Manufacturer: National Semiconductor; PackageTopMarking: R19A*XTT; PowerWise: Y; CompType: Voltage Reference IC; DatasheetVersion: Apr-2000; PackageVersion: revD, Aug-2008; PackageReference: MF05A; PackageDescription: Molded SOT-23, .115 x .063 x .040 in Body, 5 Lead, .0375 in Pitch; RoHS: Y; PinCount: 5; ComponentLink1Description: Manufacturer URL; ComponentLink1URL: http://www.national.com/; ComponentLink2Description: LM4121 Datasheet; ComponentLink2URL: http://www.national.com/ds/LM/LM4121.pdf; ComponentLink3Description: LM4121 Web Page; ComponentLink3URL: http://www.national.com/pf/LM/LM4121.html; ComponentLink4Description: MF05A Package Page; ComponentLink4URL: http://www.national.com/packaging/folders/mf05a.html
footprint MF05A_N (SOT23, 5-Leads, Body 2.9x1.6mm, Pitch 0.95mm, Lead Span 2.8mm, IPC Medium Density)
footprint MF05A_L (SOT23, 5-Leads, Body 2.9x1.6mm, Pitch 0.95mm, Lead Span 2.8mm, IPC High Density)
footprint MF05A_M (SOT23, 5-Leads, Body 2.9x1.6mm, Pitch 0.95mm, Lead Span 2.8mm, IPC Low Density)
pins: 1 REF, 2 GND (power), 3 EN (in), 4 IN (power), 5 OUT (power)

## LM4121AIM5-ADJ
designator U?
Precision Micropower Low Dropout Voltage Reference, 5-pin SOT-23; PartNumber: LM4121AIM5-ADJ; Manufacturer: National Semiconductor; PackageTopMarking: R20A*XTT; PowerWise: Y; CompType: Voltage Reference IC; DatasheetVersion: Apr-2000; PackageVersion: revD, Aug-2008; PackageReference: MF05A; PackageDescription: Molded SOT-23, .115 x .063 x .040 in Body, 5 Lead, .0375 in Pitch; RoHS: N; PinCount: 5; ComponentLink1Description: Manufacturer URL; ComponentLink1URL: http://www.national.com/; ComponentLink2Description: LM4121 Datasheet; ComponentLink2URL: http://www.national.com/ds/LM/LM4121.pdf; ComponentLink3Description: LM4121 Web Page; ComponentLink3URL: http://www.national.com/pf/LM/LM4121.html; ComponentLink4Description: MF05A Package Page; ComponentLink4URL: http://www.national.com/packaging/folders/mf05a.html
footprint MF05A_N (SOT23, 5-Leads, Body 2.9x1.6mm, Pitch 0.95mm, Lead Span 2.8mm, IPC Medium Density)
footprint MF05A_L (SOT23, 5-Leads, Body 2.9x1.6mm, Pitch 0.95mm, Lead Span 2.8mm, IPC High Density)
footprint MF05A_M (SOT23, 5-Leads, Body 2.9x1.6mm, Pitch 0.95mm, Lead Span 2.8mm, IPC Low Density)
pins: 1 ADJ (in), 2 GND (power), 3 EN (in), 4 IN (power), 5 OUT (power)

## LM4121AIM5-ADJ/NOPB
designator U?
Precision Micropower Low Dropout Voltage Reference, 5-pin SOT-23, Pb-Free; PartNumber: LM4121AIM5-ADJ/NOPB; Manufacturer: National Semiconductor; PackageTopMarking: R20A*XTT; PowerWise: Y; CompType: Voltage Reference IC; DatasheetVersion: Apr-2000; PackageVersion: revD, Aug-2008; PackageReference: MF05A; PackageDescription: Molded SOT-23, .115 x .063 x .040 in Body, 5 Lead, .0375 in Pitch; RoHS: Y; PinCount: 5; ComponentLink1Description: Manufacturer URL; ComponentLink1URL: http://www.national.com/; ComponentLink2Description: LM4121 Datasheet; ComponentLink2URL: http://www.national.com/ds/LM/LM4121.pdf; ComponentLink3Description: LM4121 Web Page; ComponentLink3URL: http://www.national.com/pf/LM/LM4121.html; ComponentLink4Description: MF05A Package Page; ComponentLink4URL: http://www.national.com/packaging/folders/mf05a.html
footprint MF05A_N (SOT23, 5-Leads, Body 2.9x1.6mm, Pitch 0.95mm, Lead Span 2.8mm, IPC Medium Density)
footprint MF05A_L (SOT23, 5-Leads, Body 2.9x1.6mm, Pitch 0.95mm, Lead Span 2.8mm, IPC High Density)
footprint MF05A_M (SOT23, 5-Leads, Body 2.9x1.6mm, Pitch 0.95mm, Lead Span 2.8mm, IPC Low Density)
pins: 1 ADJ (in), 2 GND (power), 3 EN (in), 4 IN (power), 5 OUT (power)

## LM4121AIM5X-ADJ
designator U?
Precision Micropower Low Dropout Voltage Reference, 5-pin SOT-23; PartNumber: LM4121AIM5X-ADJ; Manufacturer: National Semiconductor; PackageTopMarking: R20A*XTT; PowerWise: Y; CompType: Voltage Reference IC; DatasheetVersion: Apr-2000; PackageVersion: revD, Aug-2008; PackageReference: MF05A; PackageDescription: Molded SOT-23, .115 x .063 x .040 in Body, 5 Lead, .0375 in Pitch; RoHS: N; PinCount: 5; ComponentLink1Description: Manufacturer URL; ComponentLink1URL: http://www.national.com/; ComponentLink2Description: LM4121 Datasheet; ComponentLink2URL: http://www.national.com/ds/LM/LM4121.pdf; ComponentLink3Description: LM4121 Web Page; ComponentLink3URL: http://www.national.com/pf/LM/LM4121.html; ComponentLink4Description: MF05A Package Page; ComponentLink4URL: http://www.national.com/packaging/folders/mf05a.html
footprint MF05A_N (SOT23, 5-Leads, Body 2.9x1.6mm, Pitch 0.95mm, Lead Span 2.8mm, IPC Medium Density)
footprint MF05A_L (SOT23, 5-Leads, Body 2.9x1.6mm, Pitch 0.95mm, Lead Span 2.8mm, IPC High Density)
footprint MF05A_M (SOT23, 5-Leads, Body 2.9x1.6mm, Pitch 0.95mm, Lead Span 2.8mm, IPC Low Density)
pins: 1 ADJ (in), 2 GND (power), 3 EN (in), 4 IN (power), 5 OUT (power)